# EAGLE library part ADS131M02 (library magmeter)
24-bit, 64kSPS, 2-channel simultaneous sampling ADC with PGA
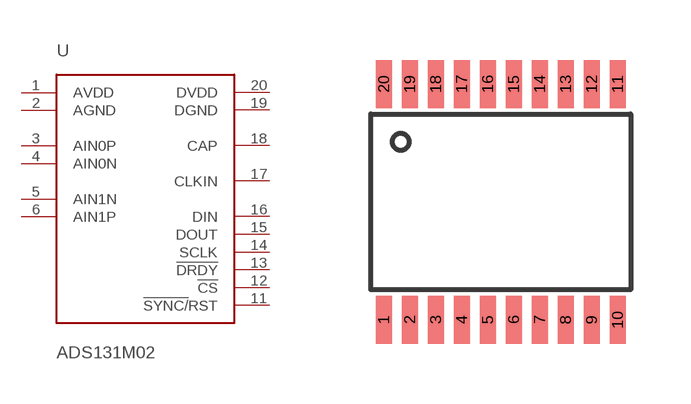
[diagram p0: symbol with the pads of TSSOP20; footprint TSSOP20]

Designator prefix U

## ADS131M02 (MANUFACTURER: Texas Instruments; MPN: ADS131M02IPWR)  [TSSOP20]
1  AVDD  pwr
2  AGND  pwr
3  AIN0P
4  AIN0N
5  AIN1N
6  AIN1P
11  !SYNC/!RST  in
12  !CS  in
13  !DRDY  out
14  SCLK  in
15  DOUT  out
16  DIN  in
17  CLKIN  in
18  CAP
19  DGND  pwr
20  DVDD  pwr

## Footprint TSSOP20 (pad centres in mm)
TSSOP-20, 6.5mm x 4.4mm body, 0.65mm pitch
smd 0.4 x 1.2: 1 -2.925,-2.95; 2 -2.275,-2.95; 3 -1.625,-2.95; 4 -0.975,-2.95; 5 -0.325,-2.95; 6 0.325,-2.95; 7 0.975,-2.95; 8 1.625,-2.95; 9 2.275,-2.95; 10 2.925,-2.95; 11 2.925,2.95; 12 2.275,2.95; 13 1.625,2.95; 14 0.975,2.95; 15 0.325,2.95; 16 -0.325,2.95; 17 -0.975,2.95; 18 -1.625,2.95; 19 -2.275,2.95; 20 -2.925,2.95